# Altium footprint library CONV_RAC10-12SK_277.PcbLib: 1 footprints
Each footprint in its own frame and in the unit in brackets; x right, y up, seen from the top. Pads: shape width x height; smd on the part's side, far side on the other; paste and mask are expansions set on the pad; w line width, h text height; cw(c..) or ccw(c..) is an arc to the next point about the centre after c.
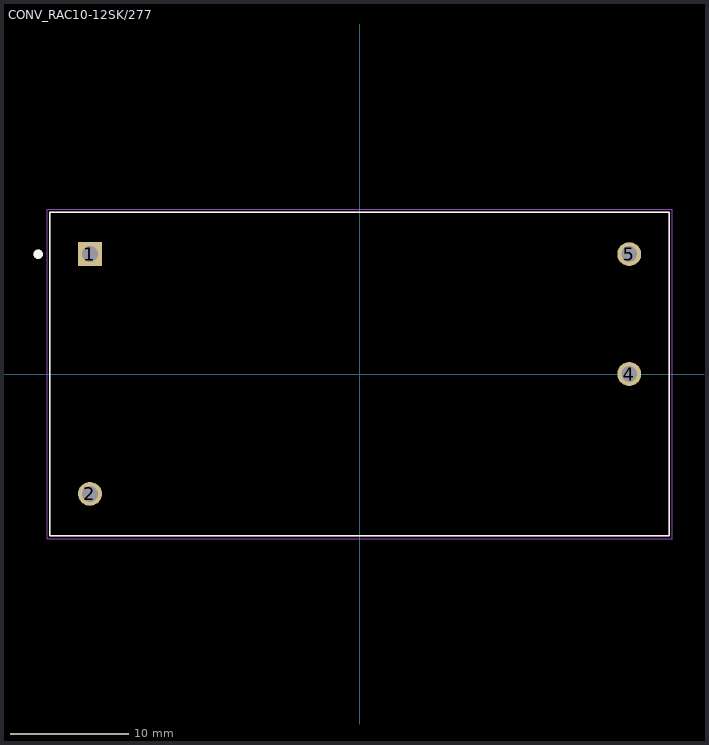
[diagram p0: the footprint, top view; thin cyan lines are the x and y axes]

## CONV_RAC10-12SK/277 [mm]
pads (4):
  rect 2.03x2.03 hole 1.35: 1(-22.86,10.16)
  round 2.03 hole 1.35: 2(-22.86,-10.16) 4(22.86,0) 5(22.86,10.16)
Top Overlay:
  circle w0.4: c-27.25,10.16 r0.2
  lines w0.127: -26.25,-13.7 -26.25,13.7 26.25,13.7 26.25,-13.7 -26.25,-13.7
Mechanical 13:
  circle w0.4: c-27.25,10.16 r0.2
  lines w0.127: -26.25,-13.7 -26.25,13.7 26.25,13.7 26.25,-13.7 -26.25,-13.7
Mechanical 15:
  lines w0.05: -26.5,-13.95 -26.5,13.95 26.5,13.95 26.5,-13.95 -26.5,-13.95